# EAGLE library part BMI088 (library BMI088)
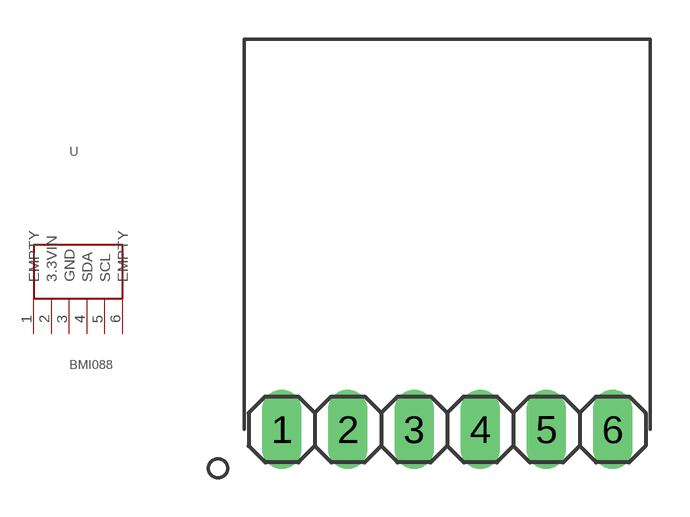
[diagram p0: symbol with the pads of 1X06; footprint 1X06]

Designator prefix -

## BMI088  [1X06]
1  EMPTY
2  3.3VIN  pwr
3  GND  out
4  SDA
5  SCL
6  EMPTY

## Footprint 1X06 (pad centres in mm)
PIN HEADER
drill 1.016 long: 1 -6.35,0; 2 -3.81,0; 3 -1.27,0; 4 1.27,0; 5 3.81,0; 6 6.35,0